# Altium schematic symbol library P4040.SchLib: 2 symbols
Pins are listed as number, name and electrical type; pins without a type are passive.

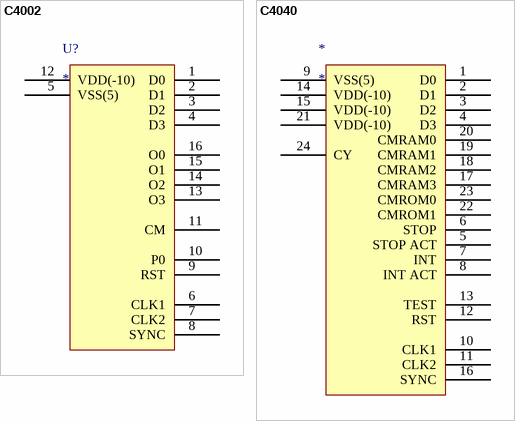
[diagram p0: symbols C4002 to C4040]

## C4002
designator U?
footprint P4040
pins: 1 D0, 2 D1, 3 D2, 4 D3, 5 VSS(5), 6 CLK1, 7 CLK2, 8 SYNC, 9 RST, 10 P0, 11 CM, 12 VDD(-10), 13 O3, 14 O2, 15 O1, 16 O0

## C4040
designator *
pins: 1 D0, 2 D1, 3 D2, 4 D3, 5 STOP ACT, 6 STOP, 7 INT, 8 INT ACT, 9 VSS(5), 10 CLK1, 11 CLK2, 12 RST, 13 TEST, 14 VDD(-10), 15 VDD(-10), 16 SYNC, 17 CMRAM3, 18 CMRAM2, 19 CMRAM1, 20 CMRAM0, 21 VDD(-10), 22 CMROM1, 23 CMROM0, 24 CY